# Altium schematic symbol library RMCF0805FT10K0.SchLib: 1 symbol
Pins are listed as number, name and electrical type; pins without a type are passive.

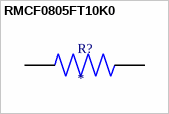
[diagram p0: symbol RMCF0805FT10K0]

## RMCF0805FT10K0
designator R?
MF: {'manufacturer': u'Stackpole Electronics Inc'}; MP: RMCF0805FT10K0; Package: None; Price: None; Value: *; Availability: Unavailable
footprint RESC2012X65N
pins: 1, 2